# Altium footprint library FootPrintLib_6.PcbLib: 588 footprints (part 35 of 37)
Each footprint in its own frame and in the unit in brackets; x right, y up, seen from the top. Pads: shape width x height; smd on the part's side, far side on the other; paste and mask are expansions set on the pad; w line width, h text height; cw(c..) or ccw(c..) is an arc to the next point about the centre after c.
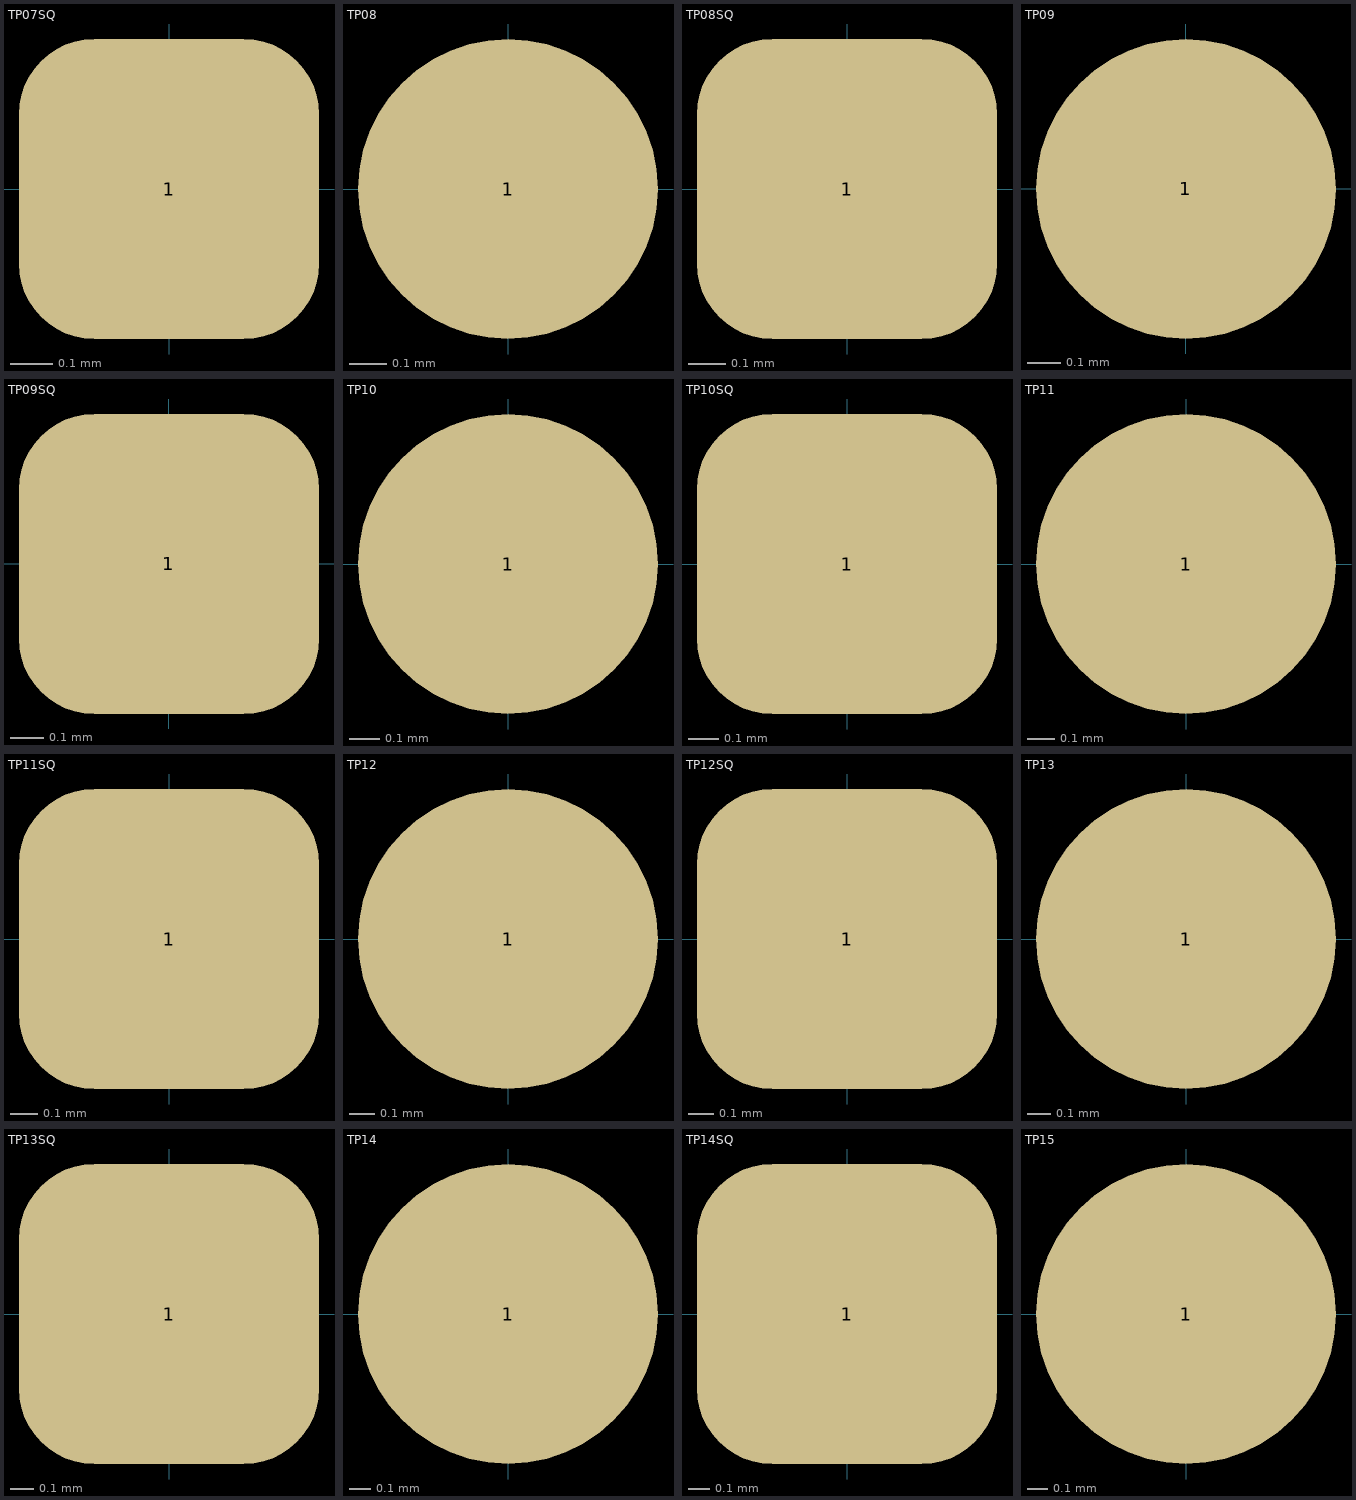
[diagram p34: the footprints below, top view; thin cyan lines are the x and y axes]

## TP07SQ [mm] "Square SMD Test Pin; 0.7 mm"
pads (1):
  rrect50% 0.7x0.7 smd: 1(0,0)

## TP08 [mm] "Round SMD Test Pin; 0.8 mm"
pads (1):
  round 0.8 smd: 1(0,0)

## TP08SQ [mm] "Square SMD Test Pin; 0.8 mm"
pads (1):
  rrect50% 0.8x0.8 smd: 1(0,0)

## TP09 [mm] "Round SMD Test Pin; 0.9 mm"
pads (1):
  round 0.9 smd: 1(0,0)

## TP09SQ [mm] "Square SMD Test Pin; 0.9 mm"
pads (1):
  rrect50% 0.9x0.9 smd: 1(0,0)

## TP10 [mm] "Round SMD Test Pin; 1.0 mm"
pads (1):
  round 1 smd: 1(0,0)

## TP10SQ [mm] "Square SMD Test Pin; 1.0 mm"
pads (1):
  rrect50% 1x1 smd: 1(0,0)

## TP11 [mm] "Round SMD Test Pin; 1.1 mm"
pads (1):
  round 1.1 smd: 1(0,0)

## TP11SQ [mm] "Square SMD Test Pin; 1.1 mm"
pads (1):
  rrect50% 1.1x1.1 smd: 1(0,0)

## TP12 [mm] "Round SMD Test Pin; 1.2 mm"
pads (1):
  round 1.2 smd: 1(0,0)

## TP12SQ [mm] "Square SMD Test Pin; 1.2 mm"
pads (1):
  rrect50% 1.2x1.2 smd: 1(0,0)

## TP13 [mm] "Round SMD Test Pin; 1.3 mm"
pads (1):
  round 1.3 smd: 1(0,0)

## TP13SQ [mm] "Square SMD Test Pin; 1.3 mm"
pads (1):
  rrect50% 1.3x1.3 smd: 1(0,0)

## TP14 [mm] "Round SMD Test Pin; 1.4 mm"
pads (1):
  round 1.4 smd: 1(0,0)

## TP14SQ [mm] "Square SMD Test Pin; 1.4 mm"
pads (1):
  rrect50% 1.4x1.4 smd: 1(0,0)

## TP15 [mm] "Round SMD Test Pin; 1.5 mm"
pads (1):
  round 1.5 smd: 1(0,0)